# EAGLE library part NLAS5223B (library lightmeter)
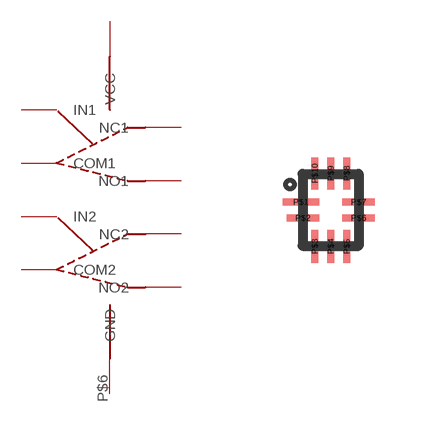
[diagram p5: symbol with the pads of WQFN10; footprint WQFN10]

Designator prefix -

## NLAS5223B  [WQFN10]
P$1  VCC
P$2  NO1
P$3  COM1
P$4  IN1
P$5  NC1
P$6  GND
P$7  NC2
P$8  IN2
P$9  COM2
P$10  NO2

## Footprint WQFN10 (pad centres in mm)
smd 0.917 x 0.178: P$1 -0.747,0.199
smd 0.815 x 0.178: P$2 -0.696,-0.199; P$6 0.696,-0.199; P$7 0.696,0.199
smd 0.178 x 0.815: P$3 -0.399,-0.914; P$4 0,-0.914; P$5 0.399,-0.914
smd 0.178 x 0.805: P$8 0.399,0.914; P$9 0,0.914; P$10 -0.399,0.914